# Altium footprint library EC11E18244AU.PcbLib: 1 footprints
Each footprint in its own frame and in the unit in brackets; x right, y up, seen from the top. Pads: shape width x height; smd on the part's side, far side on the other; paste and mask are expansions set on the pad; w line width, h text height; cw(c..) or ccw(c..) is an arc to the next point about the centre after c.
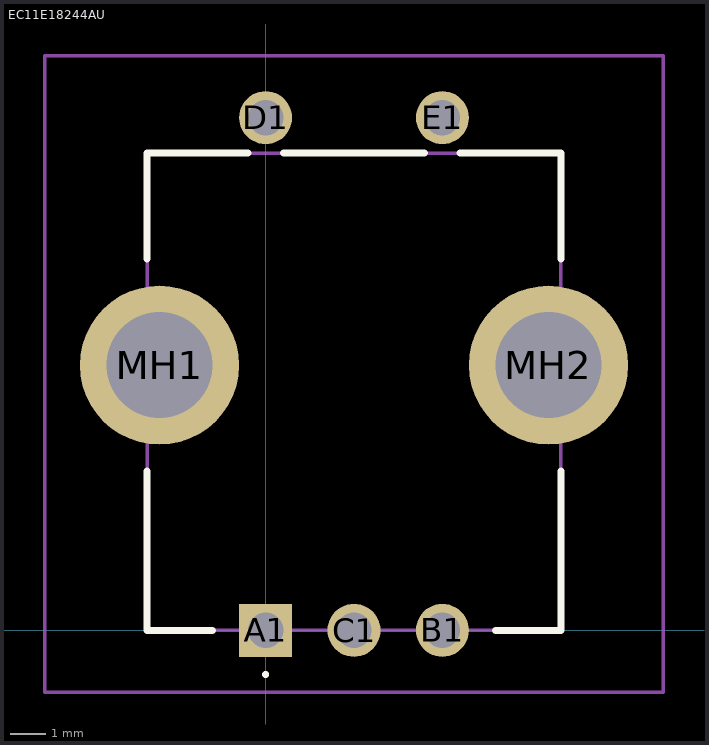
[diagram p0: the footprint, top view; thin cyan lines are the x and y axes]

## EC11E18244AU [mm]
pads (7):
  rect 1.5x1.5 hole 1: A1(0,0)
  round 1.5 hole 1: B1(5,0) C1(2.5,0) D1(0,14.5) E1(5,14.5)
  round 4.5 hole 3: MH1(-3,7.5) MH2(8,7.5)
Top Overlay:
  lines w0.1: 0,-1.3 cw(c0,-1.25) 0,-1.2 cw(c0,-1.25) 0,-1.3
  lines w0.2: -3.35,4.5 -3.35,0 -1.5,0 ; -3.35,10.5 -3.35,13.5 -0.5,13.5 ; 0.5,13.5 4.5,13.5 ; 5.5,13.5 8.35,13.5 8.35,10.5 ; 6.5,0 8.35,0 8.35,4.5
Mechanical 15:
  lines w0.1: -3.35,0 -3.35,13.5 8.35,13.5 8.35,0 -3.35,0
Mechanical 20:
  lines w0.1: -6.25,-1.75 -6.25,16.25 11.25,16.25 11.25,-1.75 -6.25,-1.75